# Altium footprint library Switches-relays.PcbLib: 71 footprints (part 2 of 5)
Each footprint in its own frame and in the unit in brackets; x right, y up, seen from the top. Pads: shape width x height; smd on the part's side, far side on the other; paste and mask are expansions set on the pad; w line width, h text height; cw(c..) or ccw(c..) is an arc to the next point about the centre after c.
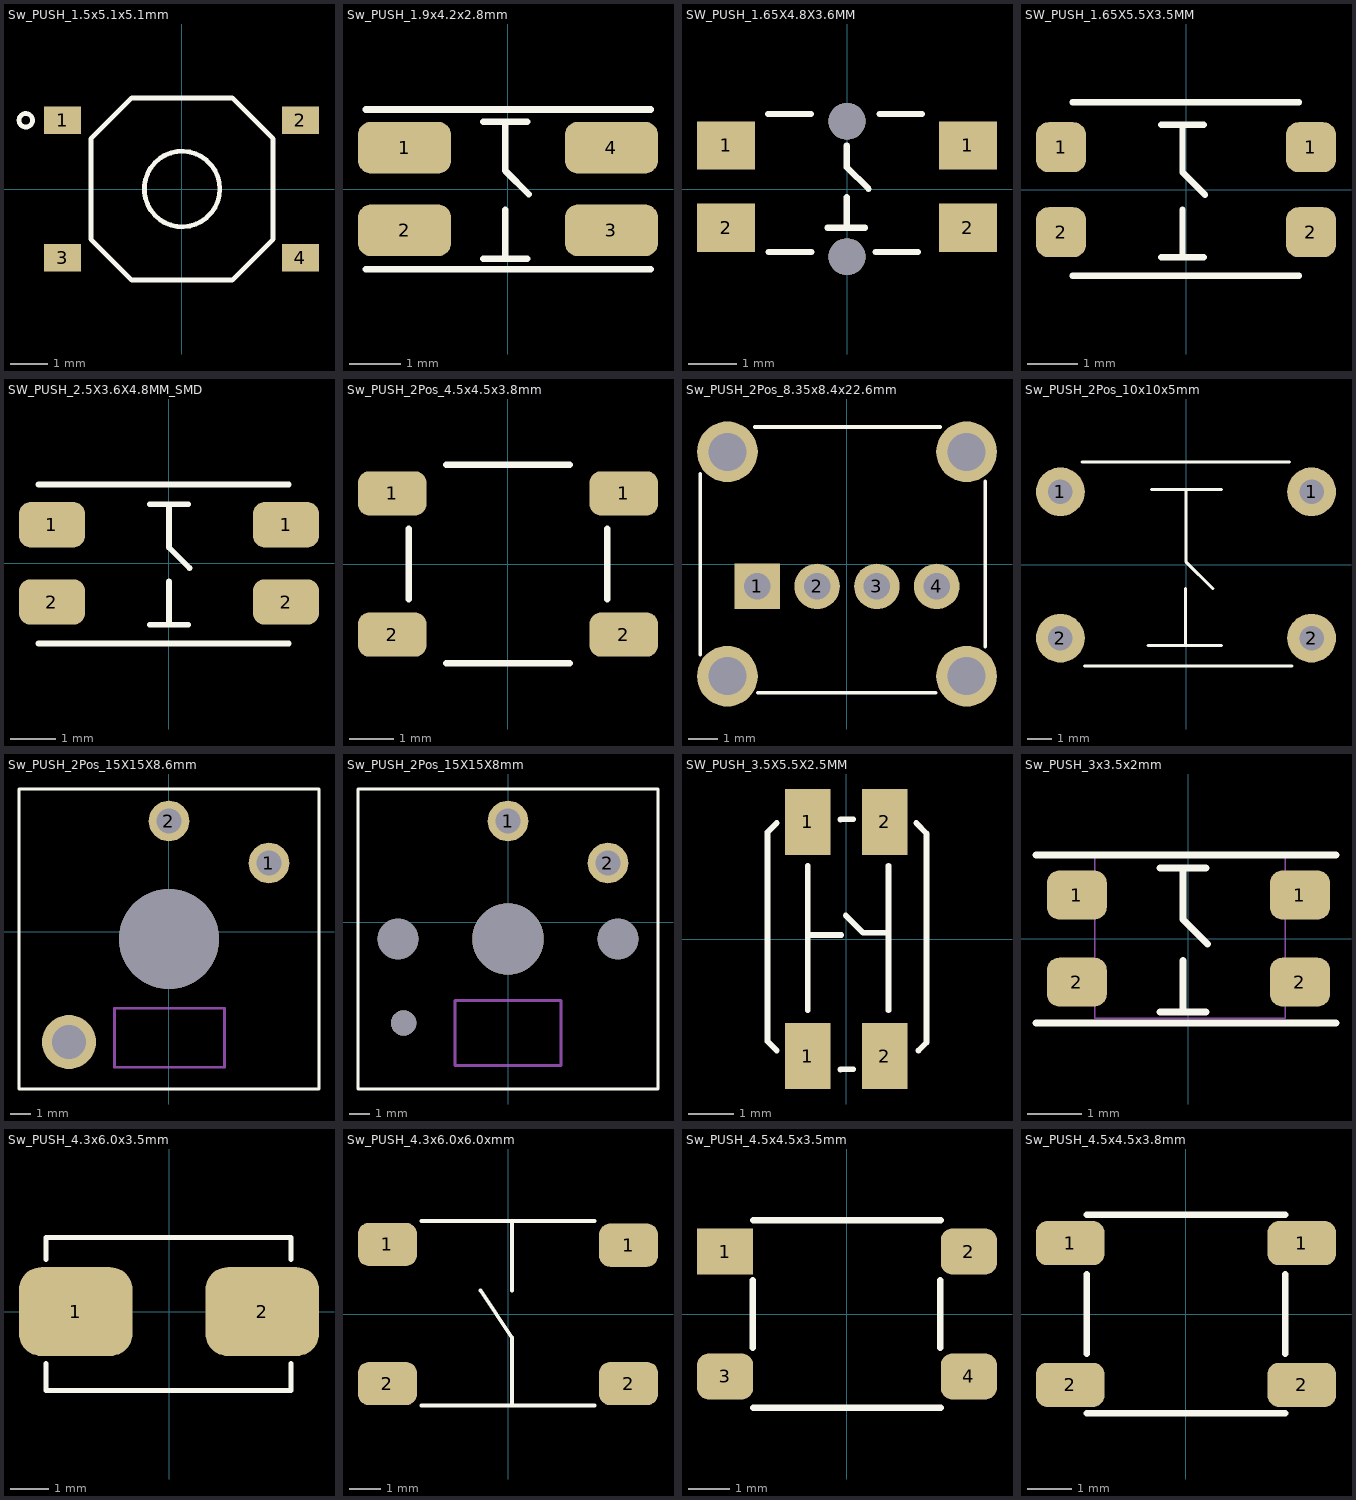
[diagram p1: the footprints below, top view; thin cyan lines are the x and y axes]

## Sw_PUSH_1.5x5.1x5.1mm [mm] "/20220823/F-A.Ospina"
pads (4):
  rect 1x0.75 smd: 1(-3.2,1.85) 2(3.2,1.85) 3(-3.2,-1.85) 4(3.2,-1.85)
Top Overlay:
  circle w0.127: c-4.191,1.85 r0.182
  lines w0.127: -2.436,-1.348 -1.336,-2.448 1.364,-2.448 2.464,-1.348 2.464,1.352 1.364,2.452 -1.336,2.452 -2.436,1.352 -2.436,-1.348 ; 1.03,0.002 ccw(c0.014,0.002) 1.03,0.002
3D body "PTS526_SM15_SMTR2_LFS.stp": height 1.51, standoff -0.04, extent -3.186,-2.598 3.214,2.602

## Sw_PUSH_1.9x4.2x2.8mm [mm] "SPST-NO 50MA 32V / 20190222 / N-A.Potosi"
pads (4):
  rrect50% 1.8x1 smd: 1(-2,0.8) 2(-2,-0.8) 3(2,-0.8) 4(2,0.8)
Top Overlay:
  lines w0.127: -2.75,-1.551 2.762,-1.551 ; -2.75,1.537 2.762,1.537 ; -0.475,-1.35 0.375,-1.35 ; -0.475,1.3 0.375,1.3 ; -0.05,-1.35 -0.05,-0.4 ; -0.05,1.3 -0.05,0.35 0.4,-0.1
3D body "KMR621NGLFS.stp": height 1.93, standoff 0.01, extent -2.3,-1.4 2.3,1.4

## SW_PUSH_1.65X4.8X3.6MM [mm] "/20210810/J-E.Pachon"
pads (6):
  rect 1.2x1 smd: 1(-2.5,0.9) 1(2.5,0.9) 2(-2.5,-0.8) 2(2.5,-0.8)
  round 0.762 hole 0.762 mask+0.102: ""(0,-1.4) ""(0,1.4)
Top Overlay:
  lines w0.127: -1.63,1.55 -0.75,1.55 ; -1.619,-1.3 -0.74,-1.3 ; -0.405,-0.8 0.375,-0.8 ; -0.005,-0.8 -0.005,-0.172 ; -0.005,0.9 -0.005,0.45 0.445,0 ; 0.59,-1.3 1.47,-1.3 ; 0.67,1.55 1.55,1.55

## SW_PUSH_1.65X5.5X3.5MM [mm] "/20210201/J-E.Pachon"
pads (4):
  rrect50% 1x1 smd: 1(-2.5,0.85) 1(2.5,0.85) 2(-2.5,-0.85) 2(2.5,-0.85)
Top Overlay:
  lines w0.127: -2.27,-1.72 2.26,-1.72 ; -2.27,1.75 2.26,1.75 ; -0.495,-1.35 0.355,-1.35 ; -0.495,1.3 0.355,1.3 ; -0.07,-1.35 -0.07,-0.4 ; -0.07,1.3 -0.07,0.35 0.38,-0.1
3D body "434353045816.stp": height 1.65, standoff 0, extent -2.77,-2.75 2.73,1.75

## SW_PUSH_2.5X3.6X4.8MM_SMD [mm] "20230912 / E.Naranjo"
pads (4):
  rrect50% 1.45x1 smd: 1(-2.575,0.85) 1(2.575,0.85) 2(-2.575,-0.85) 2(2.575,-0.85)
Top Overlay:
  lines w0.127: -2.868,-1.764 2.633,-1.764 ; -2.868,1.736 2.633,1.736 ; -0.425,-1.35 0.425,-1.35 ; -0.425,1.3 0.425,1.3 ; 0,-1.35 0,-0.4 ; 0,1.3 0,0.35 0.45,-0.1
3D body "28071.stp": height 2.49, standoff -0.01, extent -2.868,-1.764 2.633,1.736

## Sw_PUSH_2Pos_4.5x4.5x3.8mm [mm] "/20210712/V-A.Patino"
pads (4):
  rrect50% 1.55x1 smd: 1(-2.625,1.6) 1(2.625,1.6) 2(-2.625,-1.6) 2(2.625,-1.6)
Top Overlay:
  lines w0.152: -2.25,-0.8 -2.25,0.8 ; -1.4,-2.25 1.4,-2.25 ; -1.4,2.25 1.4,2.25 ; 2.25,-0.8 2.25,0.8
3D body: height 3.8, standoff 0, extent -1.24,-1.248 1.25,1.247
3D body: height 2.9, standoff 0, extent -2.25,-2.25 2.25,2.25

## Sw_PUSH_2Pos_8.35x8.4x22.6mm [mil] "/ 20190613 / V-A.Patino"
pads (8):
  rect 60x60 hole 35: 1(-118.11,-29.53)
  round 60 hole 35: 2(-39.37,-29.53) 3(39.37,-29.53) 4(118.11,-29.53)
  round 80 hole 50: ""(-157.48,-147.64) ""(-157.48,147.64) ""(157.48,-147.64) ""(157.48,147.64)
Top Overlay:
  lines w5: -193.11,-119.53 -193.11,118.47 ; -121.11,180.47 122.89,180.47 ; -117.11,-169.53 116.89,-169.53 ; 181.89,-108.53 181.89,108.47

## Sw_PUSH_2Pos_10x10x5mm [mm] "/ 20210709/N-A.Potosi"
pads (4):
  round 2 hole 1: 1(-5.15,3) 1(5.15,3) 2(-5.15,-3) 2(5.15,-3)
Top Overlay:
  lines w0.127: -4.26,4.22 4.24,4.22 ; -4.155,-4.14 4.345,-4.14 ; -1.56,-3.3 1.45,-3.3 ; -1.42,3.09 1.45,3.09 ; -0.015,-3.23 -0.015,-0.965 ; -0.005,3.05 -0.005,0.135 1.095,-0.965
3D body: height 4.15, standoff 0, extent -5.005,-4.865 4.995,5.135
3D body: height 5, standoff 0, extent -2.005,-1.865 1.995,2.135

## Sw_PUSH_2Pos_15X15X8.6mm [mm] "Kalilh Choc/ 20210713/ N-A.Potosi"
pads (4):
  round 2.032 hole 1.27: 1(5,3.425) 2(0,5.525)
  round 2.7 hole 1.7: ""(-5,-5.525)
  round 5 hole 5 unplated: ""(0,-0.375)
Top Overlay:
  lines w0.127: -7.5,-7.875 -7.5,7.125 7.5,7.125 7.5,-7.875 -7.5,-7.875
Mechanical 1:
  lines w0.127: -2.695,-3.83 -2.725,-3.83 ; 2.745,-6.78 2.775,-6.78 ; -2.725,-3.83 2.775,-3.83 2.775,-6.78 ; -2.725,-3.83 -2.725,-6.78 2.775,-6.78
  text "LED" at -1.033,-5.703 h0.76
Mechanical 4:
  lines w0.127: 0,-0.375 0.025,-0.375

## Sw_PUSH_2Pos_15X15X8mm [mil] "Kalilh Choc/ 20210712/ V-A.Patino"
pads (6):
  round 80 hole 50: 1(-0.01,198.82) 2(196.84,116.14)
  round 80 hole 80 unplated: ""(-216.53,-33.46) ""(216.53,-33.46)
  round 50 hole 50: ""(-205.52,-198.82)
  round 140 hole 140 unplated: ""(-0.01,-33.46)
Top Overlay:
  lines w5: -295.28,-328.74 -295.28,261.81 295.27,261.81 295.27,-328.74 -295.28,-328.74
Mechanical 1:
  lines w6: -104.34,-282.48 104.33,-282.48 104.33,-154.53 -104.34,-154.53 -104.34,-282.48
  text "LED" at -38.31,-232.4 h30
Mechanical 15:
  lines w0.1: -1,-18.35 0.99,-16.35
3D body "Kailh LP Choc Burnt Orange.STEP": height 334.65, standoff -102.36, extent -295.28,-328.73 295.27,261.82

## SW_PUSH_3.5X5.5X2.5MM [mm] "/20200715/N-A.Potosi"
pads (4):
  rect 1x1.45 smd: 1(-0.85,-2.575) 1(-0.85,2.575) 2(0.85,-2.575) 2(0.85,2.575)
Top Overlay:
  lines w0.127: -1.533,-2.454 -1.736,-2.251 -1.736,2.346 -1.533,2.55 ; -0.85,-1.565 -0.85,1.61 ; -0.85,0.086 -0.113,0.086 ; -0.127,-2.87 0.155,-2.866 ; -0.127,2.632 0.155,2.635 ; -0.012,0.518 0.369,0.137 0.928,0.137 ; 0.928,-1.565 0.928,0.137 ; 0.928,1.61 0.928,0.137 ; 1.538,2.55 1.766,2.321 1.766,-2.276 1.588,-2.454
3D body "28071.stp": height 2.49, standoff -0.01, extent -1.736,-2.868 1.764,2.633

## Sw_PUSH_3x3.5x2mm [mm] "SPST-NO 50MA 12V / 20220722/ A-F. Romo"
pads (4):
  rrect50% 1.1x0.9 smd: 1(-2.05,0.8) 1(2.05,0.8) 2(-2.05,-0.8) 2(2.05,-0.8)
Top Overlay:
  lines w0.127: -2.8,-1.551 2.712,-1.551 ; -2.8,1.537 2.712,1.537 ; -0.525,-1.35 0.325,-1.35 ; -0.525,1.3 0.325,1.3 ; -0.1,-1.35 -0.1,-0.4 ; -0.1,1.3 -0.1,0.35 0.35,-0.1
Mechanical 1:
  lines w0.025: -1.724,-1.463 -1.724,1.537 1.776,1.537 1.776,-1.463 -1.724,-1.463
3D body "K2-1809SM-A4SW-06 v1.step": height 2, standoff 0, extent -2.35,-1.5 2.25,1.5

## Sw_PUSH_4.3x6.0x3.5mm [mil] "/ 20190222 / N-A.Potosi"
pads (2):
  rrect50% 115x90 smd: 1(-94.49,0) 2(94.49,0)
Top Overlay:
  lines w5: -124.49,-52.56 -124.49,-80 123.54,-80 123.54,-52.56 ; -124.49,52.56 -124.49,75 123.54,75 123.54,52.56
3D body "c-147873-2-k-3d.stp": height 177.67, standoff 0.5, extent -133.34,-68.89 134.38,68.91

## Sw_PUSH_4.3x6.0x6.0xmm [mil] "/ 20190222 / N-A.Potosi"
pads (4):
  rrect50% 75x55 smd mask+2.76: 1(-153.5,88.58) 1(153.5,87.58) 2(-153.5,-88.58) 2(153.5,-88.58)
Top Overlay:
  lines w5: -110,-116.31 110,-116.31 ; -110,118.69 110,118.69 ; -35,30 5,-30 5,-115 ; 5,30 5,118.69
3D body "User Library-SW_Tactile_PTS645SL43SMTR92-LFS.STEP": height 169.29, standoff 0, extent -175.66,-117.53 178.67,118.69

## Sw_PUSH_4.5x4.5x3.5mm [mm] "/20220505/V-A.Patino"
pads (4):
  rect 1.35x1.1 smd: 1(-2.925,1.5)
  rrect50% 1.35x1.1 smd: 2(2.925,1.5) 3(-2.925,-1.5) 4(2.925,-1.5)
Top Overlay:
  lines w0.152: -2.265,-0.813 -2.265,0.813 ; -2.25,-2.25 2.25,-2.25 ; -2.25,2.25 2.25,2.25 ; 2.235,-0.813 2.235,0.813
3D body: height 2.75, standoff 0, extent -2.25,-2.25 2.25,2.25
3D body: height 3.5, standoff 0, extent -1.22,-1.223 1.22,1.223

## Sw_PUSH_4.5x4.5x3.8mm [mm] "/20210412/V-A.Patino"
pads (4):
  rrect50% 1.55x1 smd: 1(-2.625,1.605) 1(2.625,1.605) 2(-2.625,-1.605) 2(2.625,-1.605)
Top Overlay:
  lines w0.152: -2.25,-2.25 2.25,-2.25 ; -2.25,-0.9 -2.25,0.9 ; -2.25,2.25 2.25,2.25 ; 2.25,-0.9 2.25,0.9
3D body: height 3.8, standoff 0, extent -2.25,-2.25 2.25,2.25